# Altium footprint library TE_Connectivity_120591_1_0.PcbLib: 1 footprints
Each footprint in its own frame and in the unit in brackets; x right, y up, seen from the top. Pads: shape width x height; smd on the part's side, far side on the other; paste and mask are expansions set on the pad; w line width, h text height; cw(c..) or ccw(c..) is an arc to the next point about the centre after c.
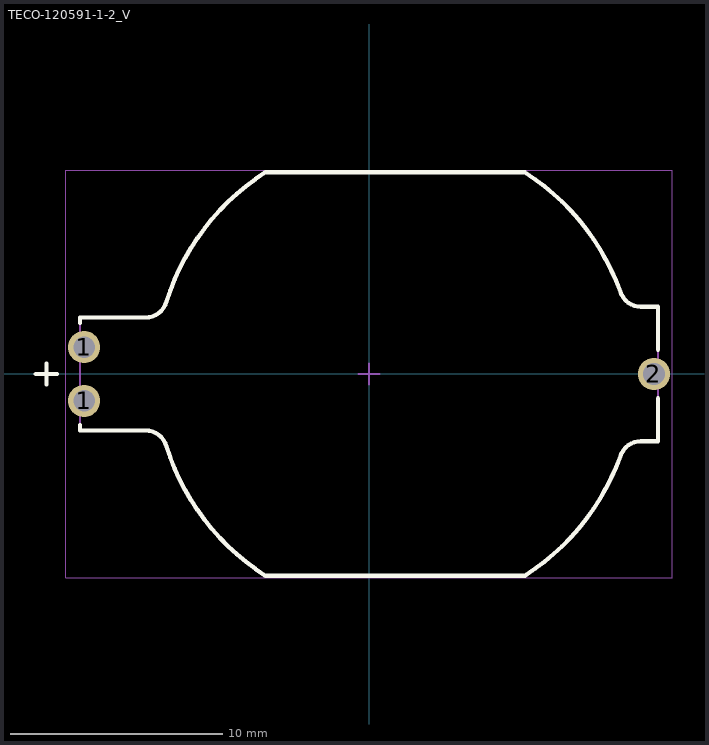
[diagram p0: the footprint, top view; thin cyan lines are the x and y axes]

## TECO-120591-1-2_V [mm] "Lithium Battery Holder"
height 6.5
pads (3):
  round 1.52 hole 1.02: 1(-13.46,-1.27) 1(-13.46,1.27) 2(13.46,0)
Top Overlay:
  lines w0.2: -15.74,0 -14.74,0 ; -15.24,-0.5 -15.24,0.5 ; -13.65,-2.414 -13.65,-2.665 -10.557,-2.665 cw(c-10.557,-3.685) -9.572,-3.421 ; -13.65,2.414 -13.65,2.665 -10.557,2.665 ccw(c-10.557,3.685) -9.572,3.421 ; -9.571,-3.421 ccw(c1.23,0) -4.905,-9.525 7.365,-9.525 ccw(c1.23,0) 11.874,-3.883 cw(c12.845,-4.195) 12.845,-3.175 13.65,-3.175 13.65,-1.144 ; -9.571,3.421 cw(c1.231,0) -4.905,9.525 7.365,9.525 cw(c1.23,0) 11.874,3.883 ccw(c12.845,4.195) 12.845,3.175 13.65,3.175 13.65,1.144
Mechanical 13:
  lines w0.1: -9.567,3.421 cw(c-10.552,3.685) -10.552,2.665 -13.645,2.665 -13.645,-2.665 -10.552,-2.665 cw(c-10.552,-3.685) -9.567,-3.421 ccw(c1.235,0) -4.9,-9.525 7.37,-9.525 ccw(c1.235,0) 11.879,-3.883 cw(c12.85,-4.195) 12.85,-3.175 13.655,-3.175 13.655,3.175 12.85,3.175 cw(c12.85,4.195) 11.879,3.883 ccw(c1.235,0) 7.37,9.525 -4.9,9.525 ccw(c1.235,0) -9.566,3.421
Mechanical 15:
  lines w0.05: -14.32,-9.625 -14.32,9.625 14.32,9.625 14.32,-9.625 -14.32,-9.625
  lines w0.1: -0.5,0 0.5,0 ; 0,-0.5 0,0.5
3D body "c-120591-1-j1-3d.stp": height 6.41, standoff -3.04, extent -13.65,-9.525 13.655,9.525